# Altium footprint library Footprints.PcbLib: 41 footprints (part 2 of 3)
Each footprint in its own frame and in the unit in brackets; x right, y up, seen from the top. Pads: shape width x height; smd on the part's side, far side on the other; paste and mask are expansions set on the pad; w line width, h text height; cw(c..) or ccw(c..) is an arc to the next point about the centre after c.
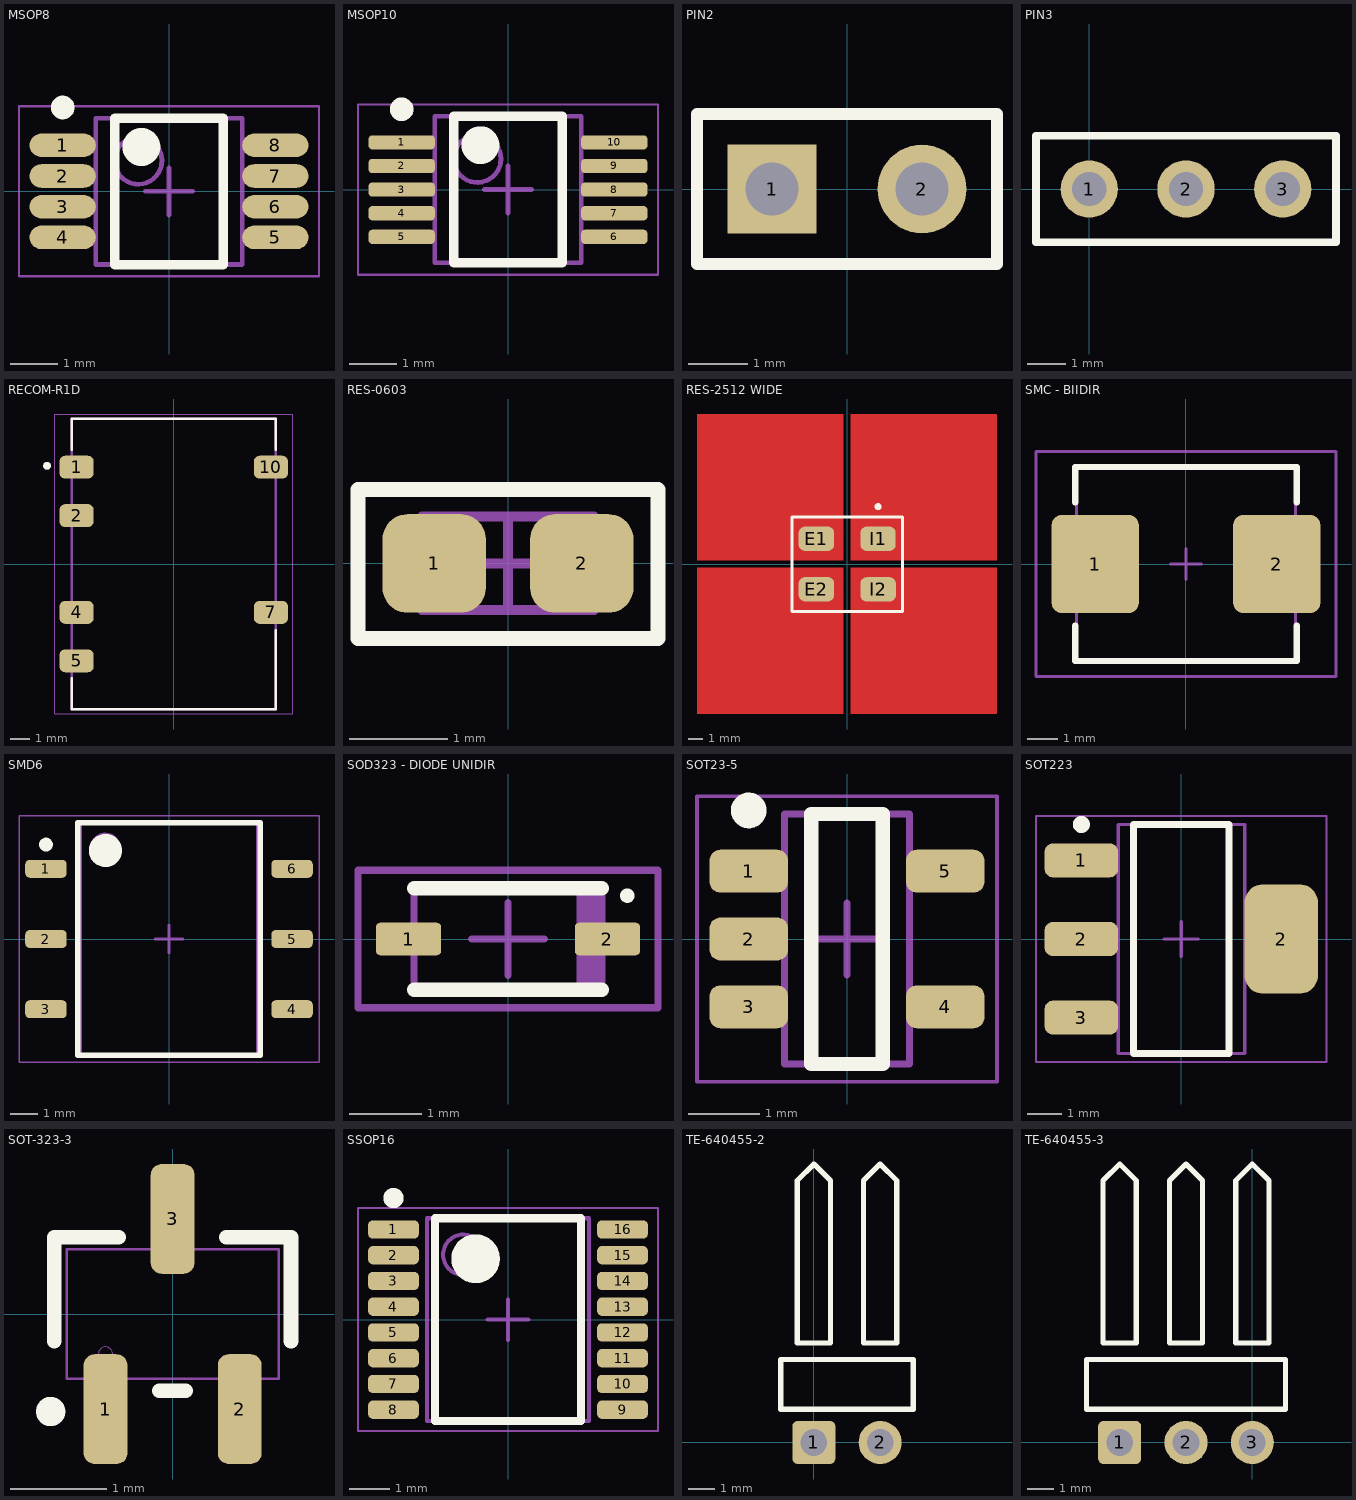
[diagram p1: the footprints below, top view; thin cyan lines are the x and y axes]

## MSOP8 [mm]
height 2.65
pads (8):
  oval 1.4x0.5 smd: 1(-2.25,0.975) 2(-2.25,0.325) 3(-2.25,-0.325) 4(-2.25,-0.975) 5(2.25,-0.975) 6(2.25,-0.325) 7(2.25,0.325) 8(2.25,0.975)
Top Overlay:
  circle w0.25: c-2.25,1.775 r0.125
  circle w0.6: c-0.584,0.94 r0.1
  lines w0.2: -1.15,-1.55 1.15,-1.55 1.15,1.55 -1.15,1.55 -1.15,-1.55
Top Assembly (Mech13):
  circle w0.1: c-0.65,0.65 r0.5
  lines w0.1: -1.55,-1.55 1.55,-1.55 1.55,1.55 -1.55,1.55 -1.55,-1.55
Top Courtyard:
  lines w0.05: -3.175,-1.8 3.175,-1.8 3.175,1.8 -3.175,1.8 -3.175,-1.8
  lines w0.1: -0.5,0 0.5,0 ; 0,-0.5 0,0.5
3D body: height 2.65, standoff 0.1, extent -1.55,-1.55 1.55,1.55

## MSOP10 [mm]
height 2.65
pads (10):
  rrect50% 1.4x0.3 smd: 1(-2.25,1) 2(-2.25,0.5) 3(-2.25,0) 4(-2.25,-0.5) 5(-2.25,-1) 6(2.25,-1) 7(2.25,-0.5) 8(2.25,0) 9(2.25,0.5) 10(2.25,1)
Top Overlay:
  circle w0.25: c-2.25,1.7 r0.125
  circle w0.6: c-0.584,0.94 r0.1
  lines w0.2: -1.15,-1.55 -1.15,1.55 1.15,1.55 1.15,-1.55 -1.15,-1.55
Top Assembly (Mech13):
  circle w0.1: c-0.65,0.65 r0.5
  lines w0.1: -1.55,-1.55 -1.55,1.55 1.55,1.55 1.55,-1.55 -1.55,-1.55
Top Courtyard:
  lines w0.05: -3.175,-1.8 -3.175,1.8 3.175,1.8 3.175,-1.8 -3.175,-1.8
  lines w0.1: -0.5,0 0.5,0 ; 0,-0.5 0,0.5
3D body: height 2.65, standoff 0.1, extent -1.55,-1.55 1.55,1.55

## PIN2 [mm] "Radial Cap, Thru-Hole; 2 Leads; 0.1 in Pin Spacing"
pads (2):
  rect 1.5x1.5 hole 0.9: 1(-1.27,0)
  round 1.5 hole 0.9: 2(1.27,0)
Top Overlay:
  lines w0.2: -2.54,-1.27 2.54,-1.27 2.54,1.27 -2.54,1.27 -2.54,-1.27
3D body "Pin Header 2x1 TH Pitch 2.54mm.stp": height 9.5, standoff -3.2, extent -2.54,-1.27 2.54,1.27

## PIN3 [mm]
pads (3):
  round 1.5 hole 0.9: 1(0,0) 3(5.08,0)
  oval 1.51x1.5 hole 0.9: 2(2.54,0)
Top Overlay:
  lines w0.2: -1.4,-1.4 -1.4,1.4 6.48,1.4 6.48,-1.4 -1.4,-1.4
3D body "User Library-PinHeaderX3.STEP": height 8.51, standoff -3.68, extent -1.206,-1.46 6.413,1.46

## RECOM-R1D [mm] "Isolated DC/DC-Converter Dual 1W"
pads (6):
  rrect50% 1.8x1.2 smd: 1(-5.1,5.08) 2(-5.1,2.54) 4(-5.1,-2.54) 5(-5.1,-5.08) 7(5.1,-2.54) 10(5.1,5.08)
Top Overlay:
  circle w0.2: c-6.65,5.15 r0.1
  lines w0.127: -5.35,-6 -5.35,-7.62 5.35,-7.62 5.35,-3.47 ; -5.35,6 -5.35,7.62 5.35,7.62 5.35,6
Top Assembly (Mech13):
  circle w0.2: c-6.65,5.15 r0.1
  lines w0.127: -5.35,-7.62 5.35,-7.62 5.35,7.62 -5.35,7.62 -5.35,-7.62
Top Courtyard:
  lines w0.05: -6.25,-7.87 6.25,-7.87 6.25,7.87 -6.25,7.87 -6.25,-7.87
3D body "RECOM-R1D.STEP": height 7.05, standoff 0.05, extent -5.55,-7.625 5.55,7.625

## RES-0603 [mm] "Chip Resistor 0603"
height 0.6
pads (2):
  rrect50% 1.05x1 smd: 1(-0.75,0) 2(0.75,0)
Top Overlay:
  lines w0.15: -1.524,-0.762 1.524,-0.762 1.524,0.75 -1.524,0.75 -1.524,-0.762
Top Assembly (Mech13):
  lines w0.1: -0.875,-0.475 -0.875,0.475 0.875,0.475 0.875,-0.475 -0.875,-0.475
Top Courtyard:
  lines w0.05: -1.5,-0.75 -1.5,0.75 1.5,0.75 1.5,-0.75 -1.5,-0.75
  lines w0.1: -0.475,0 0.475,0 ; 0,-0.475 0,0.475
3D body "R SMD 0603.STEP": height 0.26, standoff -0.19, extent -0.825,-0.423 0.815,0.427

## RES-2512 WIDE [mm]
pads (4):
  rrect50% 2.41x1.65 smd: E1(-2.095,1.715) E2(-2.095,-1.715) I1(2.095,1.715) I2(2.105,-1.722)
Top Layer:
  rectangle: -10.215,-10.198 -0.265,-0.248
  region: 10.185,-0.248 0.235,-0.248 0.235,-10.198 10.185,-10.198
  region: 10.185,10.202 0.235,10.202 0.235,0.252 10.185,0.252
  rectangle: -10.2,0.25 -0.25,10.2
Top Overlay:
  circle w0.254: c2.1,3.9 r0.112
  lines w0.2: 3.727,-3.242 -3.727,-3.242 -3.75,-3.219 -3.75,3.2 3.75,3.2 3.75,-3.219

## SMC - BIIDIR [mm]
height 2.5
pads (2):
  rrect25% 2.85x3.2 smd: 1(-2.95,0) 2(2.95,0)
Top Overlay:
  lines w0.2: -3.6,-2 -3.6,-3.15 3.6,-3.15 3.6,-2 ; -3.6,2 -3.6,3.15 3.6,3.15 3.6,2
Top Assembly (Mech13):
  lines w0.1: -3.555,-3.11 3.555,-3.11 3.555,3.11 -3.555,3.11 -3.555,-3.11
Top Courtyard:
  lines w0.1: -0.5,0 0.5,0 ; 0,-0.5 0,0.5 ; -4.875,-3.65 4.875,-3.65 4.875,3.65 -4.875,3.65 -4.875,-3.65
3D body "SMC - DIODE UNIDIR - DIOM6959X25M.STEP": height 2.3, standoff 0, extent -3.95,-2.95 4,2.95

## SMD6 [mm]
height 2.65
pads (6):
  rrect50% 1.5x0.65 smd: 1(-4.45,2.54) 2(-4.45,0) 3(-4.45,-2.54) 4(4.45,-2.54) 5(4.45,0) 6(4.45,2.54)
Top Overlay:
  circle w0.25: c-4.45,3.415 r0.125
  circle w0.6: c-2.3,3.2 r0.3
  lines w0.2: -3.3,-4.2 -3.3,4.2 3.3,4.2 3.3,-4.2 -3.3,-4.2
Top Assembly (Mech13):
  circle w0.1: c-2.3,3.3 r0.5
  lines w0.1: -3.2,-4.2 -3.2,4.2 3.2,4.2 3.2,-4.2 -3.2,-4.2
Top Courtyard:
  lines w0.05: -5.425,-4.45 -5.425,4.45 5.425,4.45 5.425,-4.45 -5.425,-4.45
  lines w0.1: -0.5,0 0.5,0 ; 0,-0.5 0,0.5
3D body: height 2.65, standoff 0.1, extent -3.2,-4.2 3.2,4.2

## SOD323 - DIODE UNIDIR [mm] "Molded Diode, 2-Leads, Body 2.5x1.3mm, IPC Medium Density"
height 1.1
pads (2):
  rrect25% 0.9x0.45 smd: 1(-1.375,0) 2(1.375,0)
Top Overlay:
  circle w0.1: c1.65,0.6 r0.05
  lines w0.2: -1.3,-0.7 1.3,-0.7 ; -1.3,0.7 1.3,0.7
Top Assembly (Mech13):
  rectangle: 0.951,-0.675 1.301,0.675
  lines w0.1: -1.3,-0.675 -1.3,0.675 1.3,0.675 1.3,-0.675 -1.3,-0.675
Top Courtyard:
  lines w0.1: -0.5,0 0.5,0 ; 0,-0.5 0,0.5 ; -2.075,-0.95 -2.075,0.95 2.075,0.95 2.075,-0.95 -2.075,-0.95
3D body "SOD323 - DIODE UNIDIR - DIOM2512X11N.STEP": height 1.1, standoff 0, extent -1.3,-0.675 1.3,0.675

## SOT23-5 [mm] "SOT23, 5-Leads, Body 3.13x2.80mm, Pitch 0.95mm, IPC Medium Density"
height 1.45
pads (5):
  rrect50% 1.1x0.6 smd: 1(-1.375,0.95) 2(-1.375,0) 3(-1.375,-0.95) 4(1.375,-0.95) 5(1.375,0.95)
Top Overlay:
  circle w0.25: c-1.375,1.8 r0.125
  lines w0.2: -0.5,-1.75 -0.5,1.75 0.5,1.75 0.5,-1.75 -0.5,-1.75
Top Assembly:
  lines w0.1: -0.875,-1.75 0.875,-1.75 0.875,1.75 -0.875,1.75 -0.875,-1.75
Courtyard Top (Mech10):
  lines w0.05: -2.1,-2 2.1,-2 2.1,2 -2.1,2 -2.1,-2
  lines w0.1: -0.5,0 0.5,0 ; 0,-0.5 0,0.5
3D body "SOT23-5.step": height 1.45, standoff 0, extent -1.5,-1.75 1.5,1.75

## SOT223 [mm] "SOT223, 4-Leads, Body 6.50x7.00mm (avg), Pitch 2.30mm, IPC Medium Density"
height 1.8
pads (4):
  rrect50% 2.15x1 smd: 1(-2.925,2.3) 2(-2.925,0) 3(-2.925,-2.3)
  rrect50% 2.15x3.2 smd: 2(2.925,0)
Top Overlay:
  circle w0.25: c-2.925,3.35 r0.125
  lines w0.2: -1.397,-3.35 -1.397,3.35 1.397,3.35 1.397,-3.35 -1.397,-3.35
Top Assembly (Mech13):
  lines w0.1: -1.85,-3.35 -1.85,3.35 1.85,3.35 1.85,-3.35 -1.85,-3.35
Top Courtyard:
  lines w0.05: -4.25,-3.6 -4.25,3.6 4.25,3.6 4.25,-3.6 -4.25,-3.6
  lines w0.1: -0.5,0 0.5,0 ; 0,-0.5 0,0.5
3D body "SOT-223.step": height 1.8, standoff 0, extent -3.35,-3.15 3.35,3.15

## SOT-323-3 [mil]
pads (3):
  rrect50% 18x45 smd paste+0 mask+0: 1(-27.5,-39) 2(27.5,-39) 3(0,39)
Top Overlay:
  circle w6: c-50,-40 r3
  lines w6: -48.5,-11.25 -48.5,31.5 -22.1,31.5 ; -5.4,-31.5 5.4,-31.5 ; 22.1,31.5 48.5,31.5 48.5,-11.25
Top Assembly (Mech13):
  circle w0: c-27.5,-16.5 r3
  lines w1: -43.5,-26.5 43.5,-26.5 43.5,26.5 -43.5,26.5 -43.5,-26.5 ; -35.5,-47.5 -35.5,-26.5 -19.5,-26.5 -19.5,-47.5 -35.5,-47.5 ; -8,26.5 8,26.5 8,47.5 -8,47.5 -8,26.5 ; 19.5,-47.5 19.5,-26.5 35.5,-26.5 35.5,-47.5 19.5,-47.5
3D body "SOT-323-3_2P2X1P35_ONS.step": height 0, standoff 0, extent 0,0 0,0

## SSOP16 [mm]
height 2.65
pads (16):
  rrect50% 1.25x0.45 smd: 1(-2.825,2.222) 2(-2.825,1.587) 3(-2.825,0.953) 4(-2.825,0.318) 5(-2.825,-0.318) 6(-2.825,-0.953) 7(-2.825,-1.587) 8(-2.825,-2.222) 9(2.825,-2.222) 10(2.825,-1.587) 11(2.825,-0.953) 12(2.825,-0.318) 13(2.825,0.318) 14(2.825,0.953) 15(2.825,1.587) 16(2.825,2.222)
Top Overlay:
  circle w0.25: c-2.825,2.997 r0.125
  circle w0.6: c-0.8,1.5 r0.3
  lines w0.2: -1.8,-2.5 -1.8,2.5 1.8,2.5 1.8,-2.5 -1.8,-2.5
Top Assembly (Mech13):
  circle w0.1: c-1.1,1.6 r0.5
  lines w0.1: -2,-2.5 -2,2.5 2,2.5 2,-2.5 -2,-2.5
Top Courtyard:
  lines w0.05: -3.7,-2.75 -3.7,2.75 3.7,2.75 3.7,-2.75 -3.7,-2.75
  lines w0.1: -0.5,0 0.5,0 ; 0,-0.5 0,0.5
3D body "SSOP16L-150-0.64.STEP": height 1.63, standoff 0, extent -2.997,-3.09 2.997,3.09

## TE-640455-2 [mm] "CONN HEADER RTANG 2POS .100 TIN"
pads (2):
  rrect25% 1.65x1.65 hole 1.02: 1(0,0)
  round 1.65 hole 1.02: 2(2.54,0)
Top Overlay:
  lines w0.2: -1.27,1.27 -1.27,3.175 3.81,3.175 3.81,1.27 -1.27,1.27 ; -0.635,3.81 -0.635,10.033 0,10.668 0.635,10.033 0.635,3.81 -0.635,3.81 ; 1.905,3.81 3.175,3.81 3.175,10.033 2.54,10.668 1.905,10.033 1.905,3.81
3D body "c-640455-2-y-3d.STEP": height 6.49, standoff -3.54, extent -1.27,-0.254 3.81,10.795

## TE-640455-3 [mm] "CONN HEADER RTANG 3POS .100 TIN"
pads (3):
  rrect25% 1.65x1.65 hole 1.02: 1(-5.08,0)
  round 1.65 hole 1.02: 2(-2.54,0) 3(0,0)
Top Overlay:
  lines w0.2: -6.35,1.27 -6.35,3.175 1.27,3.175 1.27,1.27 -6.35,1.27 ; -5.715,3.81 -5.715,10.033 -5.08,10.668 -4.445,10.033 -4.445,3.81 -5.715,3.81 ; -3.175,3.81 -1.905,3.81 -1.905,10.033 -2.54,10.668 -3.175,10.033 -3.175,3.81 ; -0.635,3.81 -0.635,10.033 0,10.668 0.635,10.033 0.635,3.81 -0.635,3.81
3D body "c-640455-3-y-3d.STEP": height 6.49, standoff -3.54, extent -6.35,-0.254 1.27,10.795